# EAGLE library part XMC45XX-B144 (library PatternAgents-Infineon)
Infineon XMC45XX ARM Cortex M4 For the CADSoft Eagle CAD program : http://www.cadsoftusa.com/download-eagle/ Source LBR : http://www.patternagents.com Github : https://github.com/PatternAgents License : http://creativecommons.org/licenses/by-sa/4.0/ (Creative Commons 4.0) THIS SOFTWARE IS PROVIDED BY THE CONTRIBUTORS "AS IS" AND WITHOUT ANY EXPRESS OR IMPLIED WARRANTIES, INCLUDING, BUT NOT LIMITED TO, THE IMPLIED WARRANTIES OF MERCHANTABILITY AND FITNESS FOR A PARTICULAR PURPOSE ARE DISCLAIMED. IN NO EVENT SHALL THE COPYRIGHT OWNER OR CONTRIBUTORS BE LIABLE FOR ANY DIRECT, INDIRECT, INCIDENTAL, SPECIAL, EXEMPLARY, OR CONSEQUENTIAL DAMAGES (INCLUDING, BUT NOT LIMITED TO, PROCUREMENT OF SUBSTITUTE GOODS OR SERVICES; LOSS OF USE, DATA, OR PROFITS; OR BUSINESS INTERRUPTION) HOWEVER CAUSED AND ON ANY THEORY OF LIABILITY, WHETHER IN CONTRACT, STRICT LIABILITY, OR TORT (INCLUDING NEGLIGENCE OR OTHERWISE) ARISING IN ANY WAY OUT OF THE USE OF THIS SOFTWARE, EVEN IF ADVISED OF THE POSSIBILITY OF SUCH DAMAGE.
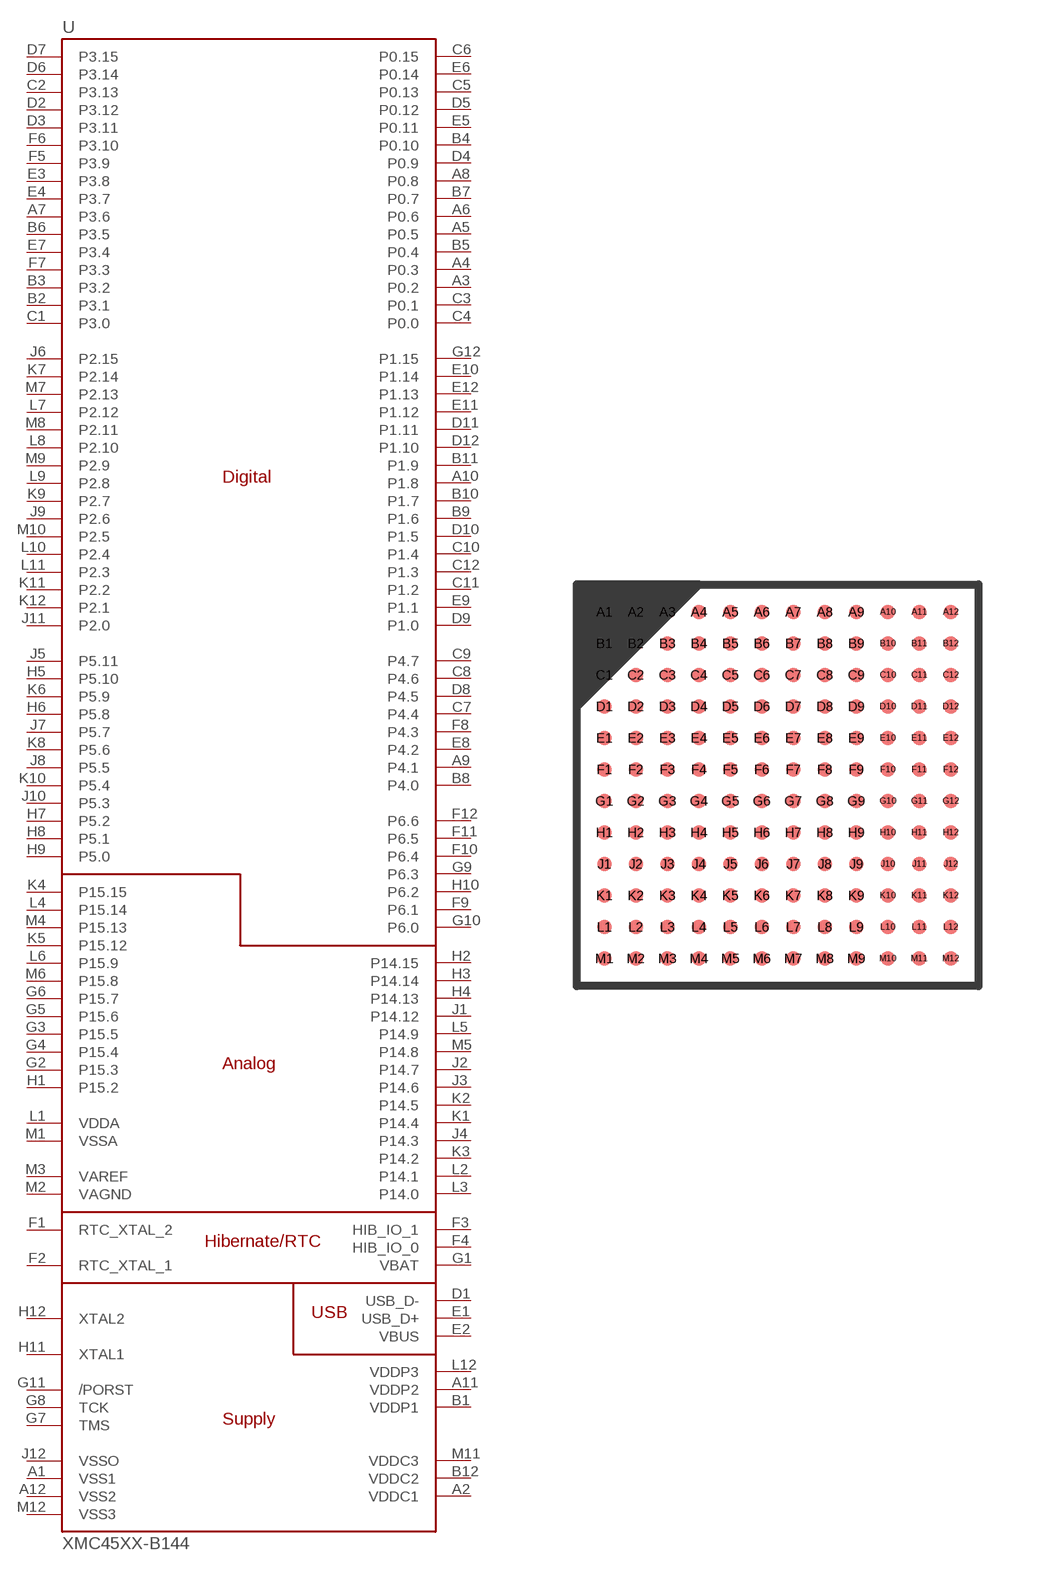
[diagram p17: symbol with the pads of PG-LFBGA-144-09; footprint PG-LFBGA-144-09]

Designator prefix U

## XMC45XX-B144  [PG-LFBGA-144-09]
A1  VSS1
A2  VDDC1
A3  P0.2
A4  P0.3
A5  P0.5
A6  P0.6
A7  P3.6
A8  P0.8
A9  P4.1
A10  P1.8
A11  VDDP2
A12  VSS2
B1  VDDP1
B2  P3.1
B3  P3.2
B4  P0.10
B5  P0.4
B6  P3.5
B7  P0.7
B8  P4.0
B9  P1.6
B10  P1.7
B11  P1.9
B12  VDDC2
C1  P3.0
C2  P3.13
C3  P0.1
C4  P0.0
C5  P0.13
C6  P0.15
C7  P4.4
C8  P4.6
C9  P4.7
C10  P1.4
C11  P1.2
C12  P1.3
D1  USB_D-
D2  P3.12
D3  P3.11
D4  P0.9
D5  P0.12
D6  P3.14
D7  P3.15
D8  P4.5
D9  P1.0
D10  P1.5
D11  P1.11
D12  P1.10
E1  USB_D+
E2  VBUS
E3  P3.8
E4  P3.7
E5  P0.11
E6  P0.14
E7  P3.4
E8  P4.2
E9  P1.1
E10  P1.14
E11  P1.12
E12  P1.13
F1  RTC_XTAL_2
F2  RTC_XTAL_1
F3  HIB_IO_1
F4  HIB_IO_0
F5  P3.9
F6  P3.10
F7  P3.3
F8  P4.3
F9  P6.1
F10  P6.4
F11  P6.5
F12  P6.6
G1  VBAT
G2  P15.3
G3  P15.5
G4  P15.4
G5  P15.6
G6  P15.7
G7  TMS
G8  TCK
G9  P6.3
G10  P6.0
G11  /PORST
G12  P1.15
H1  P15.2
H2  P14.15
H3  P14.14
H4  P14.13
H5  P5.10
H6  P5.8
H7  P5.2
H8  P5.1
H9  P5.0
H10  P6.2
H11  XTAL1
H12  XTAL2
J1  P14.12
J2  P14.7
J3  P14.6
J4  P14.3
J5  P5.11
J6  P2.15
J7  P5.7
J8  P5.5
J9  P2.6
J10  P5.3
J11  P2.0
J12  VSSO
K1  P14.4
K2  P14.5
K3  P14.2
K4  P15.15
K5  P15.12
K6  P5.9
K7  P2.14
K8  P5.6
K9  P2.7
K10  P5.4
K11  P2.2
K12  P2.1
L1  VDDA
L2  P14.1
L3  P14.0
L4  P15.14
L5  P14.9
L6  P15.9
L7  P2.12
L8  P2.10
L9  P2.8
L10  P2.4
L11  P2.3
L12  VDDP3
M1  VSSA
M2  VAGND
M3  VAREF
M4  P15.13
M5  P14.8
M6  P15.8
M7  P2.13
M8  P2.11
M9  P2.9
M10  P2.5
M11  VDDC3
M12  VSS3

## Footprint PG-LFBGA-144-09 (pad centres in mm)
Infineon PG-LFBGA-144-09 For the CADSoft Eagle CAD program : http://www.cadsoftusa.com/download-eagle/ Source LBR : http://www.patternagents.com Github : https://github.com/PatternAgents License : http://creativecommons.org/licenses/by-sa/4.0/ (Creative Commons 4.0) THIS SOFTWARE IS PROVIDED BY THE CONTRIBUTORS "AS IS" AND WITHOUT ANY EXPRESS OR IMPLIED WARRANTIES, INCLUDING, BUT NOT LIMITED TO, THE IMPLIED WARRANTIES OF MERCHANTABILITY AND FITNESS FOR A PARTICULAR PURPOSE ARE DISCLAIMED. IN NO EVENT SHALL THE COPYRIGHT OWNER OR CONTRIBUTORS BE LIABLE FOR ANY DIRECT, INDIRECT, INCIDENTAL, SPECIAL, EXEMPLARY, OR CONSEQUENTIAL DAMAGES (INCLUDING, BUT NOT LIMITED TO, PROCUREMENT OF SUBSTITUTE GOODS OR SERVICES; LOSS OF USE, DATA, OR PROFITS; OR BUSINESS INTERRUPTION) HOWEVER CAUSED AND ON ANY THEORY OF LIABILITY, WHETHER IN CONTRACT, STRICT LIABILITY, OR TORT (INCLUDING NEGLIGENCE OR OTHERWISE) ARISING IN ANY WAY OUT OF THE USE OF THIS SOFTWARE, EVEN IF ADVISED OF THE POSSIBILITY OF SUCH DAMAGE.
smd 0.37 x 0.37: A1 -4.4,4.4; A2 -3.6,4.4; A3 -2.8,4.4; A4 -2,4.4; A5 -1.2,4.4; A6 -0.4,4.4; A7 0.4,4.4; A8 1.2,4.4; A9 2,4.4; A10 2.8,4.4; A11 3.6,4.4; A12 4.4,4.4; B1 -4.4,3.6; B2 -3.6,3.6; B3 -2.8,3.6; B4 -2,3.6; B5 -1.2,3.6; B6 -0.4,3.6; B7 0.4,3.6; B8 1.2,3.6; B9 2,3.6; B10 2.8,3.6; B11 3.6,3.6; B12 4.4,3.6; C1 -4.4,2.8; C2 -3.6,2.8; C3 -2.8,2.8; C4 -2,2.8; C5 -1.2,2.8; C6 -0.4,2.8; C7 0.4,2.8; C8 1.2,2.8; C9 2,2.8; C10 2.8,2.8; C11 3.6,2.8; C12 4.4,2.8; D1 -4.4,2; D2 -3.6,2; D3 -2.8,2; D4 -2,2; D5 -1.2,2; D6 -0.4,2; D7 0.4,2; D8 1.2,2; D9 2,2; D10 2.8,2; D11 3.6,2; D12 4.4,2; E1 -4.4,1.2; E2 -3.6,1.2; E3 -2.8,1.2; E4 -2,1.2; E5 -1.2,1.2; E6 -0.4,1.2; E7 0.4,1.2; E8 1.2,1.2; E9 2,1.2; E10 2.8,1.2; E11 3.6,1.2; E12 4.4,1.2; F1 -4.4,0.4; F2 -3.6,0.4; F3 -2.8,0.4; F4 -2,0.4; F5 -1.2,0.4; F6 -0.4,0.4; F7 0.4,0.4; F8 1.2,0.4; F9 2,0.4; F10 2.8,0.4; F11 3.6,0.4; F12 4.4,0.4; G1 -4.4,-0.4; G2 -3.6,-0.4; G3 -2.8,-0.4; G4 -2,-0.4; G5 -1.2,-0.4; G6 -0.4,-0.4; G7 0.4,-0.4; G8 1.2,-0.4; G9 2,-0.4; G10 2.8,-0.4; G11 3.6,-0.4; G12 4.4,-0.4; H1 -4.4,-1.2; H2 -3.6,-1.2; H3 -2.8,-1.2; H4 -2,-1.2; H5 -1.2,-1.2; H6 -0.4,-1.2; H7 0.4,-1.2; H8 1.2,-1.2; H9 2,-1.2; H10 2.8,-1.2; H11 3.6,-1.2; H12 4.4,-1.2; J1 -4.4,-2; J2 -3.6,-2; J3 -2.8,-2; J4 -2,-2; J5 -1.2,-2; J6 -0.4,-2; J7 0.4,-2; J8 1.2,-2; J9 2,-2; J10 2.8,-2; J11 3.6,-2; J12 4.4,-2; K1 -4.4,-2.8; K2 -3.6,-2.8; K3 -2.8,-2.8; K4 -2,-2.8; K5 -1.2,-2.8; K6 -0.4,-2.8; K7 0.4,-2.8; K8 1.2,-2.8; K9 2,-2.8; K10 2.8,-2.8; K11 3.6,-2.8; K12 4.4,-2.8; L1 -4.4,-3.6; L2 -3.6,-3.6; L3 -2.8,-3.6; L4 -2,-3.6; L5 -1.2,-3.6; L6 -0.4,-3.6; L7 0.4,-3.6; L8 1.2,-3.6; L9 2,-3.6; L10 2.8,-3.6; L11 3.6,-3.6; L12 4.4,-3.6; M1 -4.4,-4.4; M2 -3.6,-4.4; M3 -2.8,-4.4; M4 -2,-4.4; M5 -1.2,-4.4; M6 -0.4,-4.4; M7 0.4,-4.4; M8 1.2,-4.4; M9 2,-4.4; M10 2.8,-4.4; M11 3.6,-4.4; M12 4.4,-4.4